# Altium integrated library CAP-CSGP_rev15b.intlib: 820 symbols (part 3 of 9)
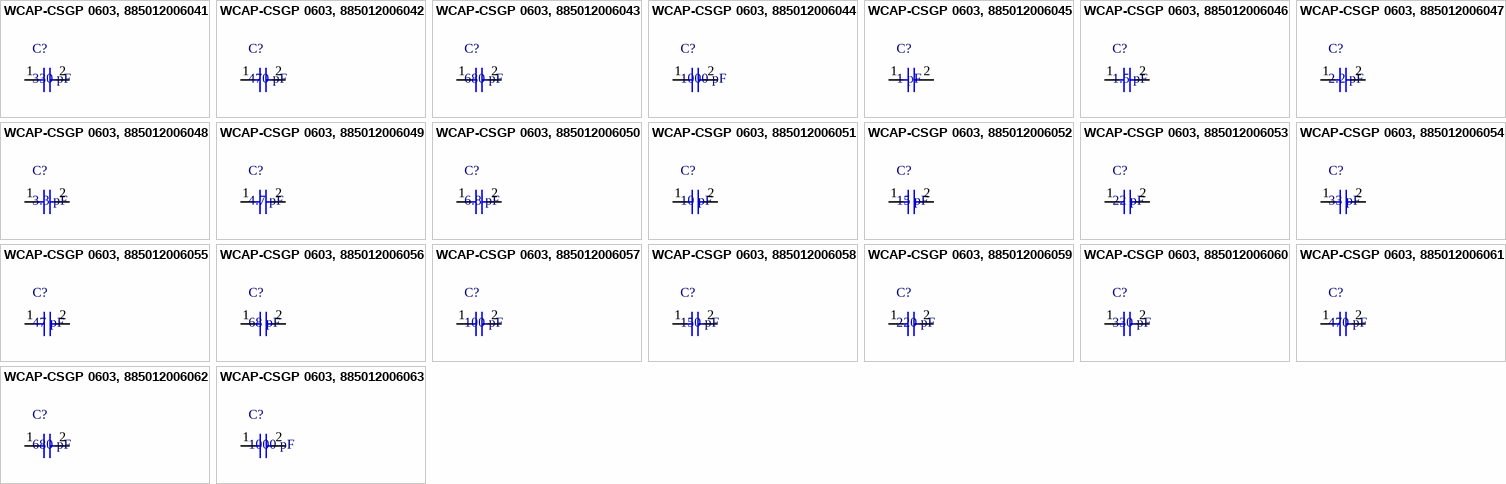
[diagram p30: symbols WCAP-CSGP 0603, 885012006041 to WCAP-CSGP 0603, 885012006063]

## WCAP-CSGP 0603, 885012006047
designator C?, comment 2.2 pF
WCAP-CSGP MLCC, NP0, 0603, 2.2 pF,50Vdc; Manufacturer: Wurth Elektronik; partNo: 885012006047; E-mail: libraries@we-online.com; ComponentLink1Description: Manufacturer; ComponentLink1URL: http://www.we-online.com; ComponentLink2Description: Datasheet; ComponentLink2URL: http://katalog.we-online.de/pbs/datasheet/885012006047.pdf; Created by: Karrer Zheng; Created Date: 3/9/2015; Capacitance: 2.2 pF
footprint WCAP-CSGP 0603, H=0.8mm
pins: 1, 2

## WCAP-CSGP 0603, 885012006048
designator C?, comment 3.3 pF
WCAP-CSGP MLCC, NP0, 0603, 3.3 pF,50Vdc; Manufacturer: Wurth Elektronik; partNo: 885012006048; E-mail: libraries@we-online.com; ComponentLink1Description: Manufacturer; ComponentLink1URL: http://www.we-online.com; ComponentLink2Description: Datasheet; ComponentLink2URL: http://katalog.we-online.de/pbs/datasheet/885012006048.pdf; Created by: Karrer Zheng; Created Date: 3/9/2015; Capacitance: 3.3 pF
footprint WCAP-CSGP 0603, H=0.8mm
pins: 1, 2

## WCAP-CSGP 0603, 885012006049
designator C?, comment 4.7 pF
WCAP-CSGP MLCC, NP0, 0603, 4.7 pF,50Vdc; Manufacturer: Wurth Elektronik; partNo: 885012006049; E-mail: libraries@we-online.com; ComponentLink1Description: Manufacturer; ComponentLink1URL: http://www.we-online.com; ComponentLink2Description: Datasheet; ComponentLink2URL: http://katalog.we-online.de/pbs/datasheet/885012006049.pdf; Created by: Karrer Zheng; Created Date: 3/9/2015; Capacitance: 4.7 pF
footprint WCAP-CSGP 0603, H=0.8mm
pins: 1, 2

## WCAP-CSGP 0603, 885012006050
designator C?, comment 6.8 pF
WCAP-CSGP MLCC, NP0, 0603, 6.8 pF,50Vdc; Manufacturer: Wurth Elektronik; partNo: 885012006050; E-mail: libraries@we-online.com; ComponentLink1Description: Manufacturer; ComponentLink1URL: http://www.we-online.com; ComponentLink2Description: Datasheet; ComponentLink2URL: http://katalog.we-online.de/pbs/datasheet/885012006050.pdf; Created by: Karrer Zheng; Created Date: 3/9/2015; Capacitance: 6.8 pF
footprint WCAP-CSGP 0603, H=0.8mm
pins: 1, 2

## WCAP-CSGP 0603, 885012006051
designator C?, comment 10 pF
WCAP-CSGP MLCC, NP0, 0603, 10 pF,50Vdc; Manufacturer: Wurth Elektronik; partNo: 885012006051; E-mail: libraries@we-online.com; ComponentLink1Description: Manufacturer; ComponentLink1URL: http://www.we-online.com; ComponentLink2Description: Datasheet; ComponentLink2URL: http://katalog.we-online.de/pbs/datasheet/885012006051.pdf; Created by: Karrer Zheng; Created Date: 3/9/2015; Capacitance: 10 pF
footprint WCAP-CSGP 0603, H=0.8mm
pins: 1, 2

## WCAP-CSGP 0603, 885012006052
designator C?, comment 15 pF
WCAP-CSGP MLCC, NP0, 0603, 15 pF,50Vdc; Manufacturer: Wurth Elektronik; partNo: 885012006052; E-mail: libraries@we-online.com; ComponentLink1Description: Manufacturer; ComponentLink1URL: http://www.we-online.com; ComponentLink2Description: Datasheet; ComponentLink2URL: http://katalog.we-online.de/pbs/datasheet/885012006052.pdf; Created by: Karrer Zheng; Created Date: 3/9/2015; Capacitance: 15 pF
footprint WCAP-CSGP 0603, H=0.8mm
pins: 1, 2

## WCAP-CSGP 0603, 885012006053
designator C?, comment 22 pF
WCAP-CSGP MLCC, NP0, 0603, 22 pF,50Vdc; Manufacturer: Wurth Elektronik; partNo: 885012006053; E-mail: libraries@we-online.com; ComponentLink1Description: Manufacturer; ComponentLink1URL: http://www.we-online.com; ComponentLink2Description: Datasheet; ComponentLink2URL: http://katalog.we-online.de/pbs/datasheet/885012006053.pdf; Created by: Karrer Zheng; Created Date: 3/9/2015; Capacitance: 22 pF
footprint WCAP-CSGP 0603, H=0.8mm
pins: 1, 2

## WCAP-CSGP 0603, 885012006054
designator C?, comment 33 pF
WCAP-CSGP MLCC, NP0, 0603, 33 pF,50Vdc; Manufacturer: Wurth Elektronik; partNo: 885012006054; E-mail: libraries@we-online.com; ComponentLink1Description: Manufacturer; ComponentLink1URL: http://www.we-online.com; ComponentLink2Description: Datasheet; ComponentLink2URL: http://katalog.we-online.de/pbs/datasheet/885012006054.pdf; Created by: Karrer Zheng; Created Date: 3/9/2015; Capacitance: 33 pF
footprint WCAP-CSGP 0603, H=0.8mm
pins: 1, 2

## WCAP-CSGP 0603, 885012006055
designator C?, comment 47 pF
WCAP-CSGP MLCC, NP0, 0603, 47 pF,50Vdc; Manufacturer: Wurth Elektronik; partNo: 885012006055; E-mail: libraries@we-online.com; ComponentLink1Description: Manufacturer; ComponentLink1URL: http://www.we-online.com; ComponentLink2Description: Datasheet; ComponentLink2URL: http://katalog.we-online.de/pbs/datasheet/885012006055.pdf; Created by: Karrer Zheng; Created Date: 3/9/2015; Capacitance: 47 pF
footprint WCAP-CSGP 0603, H=0.8mm
pins: 1, 2

## WCAP-CSGP 0603, 885012006056
designator C?, comment 68 pF
WCAP-CSGP MLCC, NP0, 0603, 68 pF,50Vdc; Manufacturer: Wurth Elektronik; partNo: 885012006056; E-mail: libraries@we-online.com; ComponentLink1Description: Manufacturer; ComponentLink1URL: http://www.we-online.com; ComponentLink2Description: Datasheet; ComponentLink2URL: http://katalog.we-online.de/pbs/datasheet/885012006056.pdf; Created by: Karrer Zheng; Created Date: 3/9/2015; Capacitance: 68 pF
footprint WCAP-CSGP 0603, H=0.8mm
pins: 1, 2

## WCAP-CSGP 0603, 885012006057
designator C?, comment 100 pF
WCAP-CSGP MLCC, NP0, 0603, 100 pF,50Vdc; Manufacturer: Wurth Elektronik; partNo: 885012006057; E-mail: libraries@we-online.com; ComponentLink1Description: Manufacturer; ComponentLink1URL: http://www.we-online.com; ComponentLink2Description: Datasheet; ComponentLink2URL: http://katalog.we-online.de/pbs/datasheet/885012006057.pdf; Created by: Karrer Zheng; Created Date: 3/9/2015; Capacitance: 100 pF
footprint WCAP-CSGP 0603, H=0.8mm
pins: 1, 2

## WCAP-CSGP 0603, 885012006058
designator C?, comment 150 pF
WCAP-CSGP MLCC, NP0, 0603, 150 pF,50Vdc; Manufacturer: Wurth Elektronik; partNo: 885012006058; E-mail: libraries@we-online.com; ComponentLink1Description: Manufacturer; ComponentLink1URL: http://www.we-online.com; ComponentLink2Description: Datasheet; ComponentLink2URL: http://katalog.we-online.de/pbs/datasheet/885012006058.pdf; Created by: Karrer Zheng; Created Date: 3/9/2015; Capacitance: 150 pF
footprint WCAP-CSGP 0603, H=0.8mm
pins: 1, 2

## WCAP-CSGP 0603, 885012006059
designator C?, comment 220 pF
WCAP-CSGP MLCC, NP0, 0603, 220 pF,50Vdc; Manufacturer: Wurth Elektronik; partNo: 885012006059; E-mail: libraries@we-online.com; ComponentLink1Description: Manufacturer; ComponentLink1URL: http://www.we-online.com; ComponentLink2Description: Datasheet; ComponentLink2URL: http://katalog.we-online.de/pbs/datasheet/885012006059.pdf; Created by: Karrer Zheng; Created Date: 3/9/2015; Capacitance: 220 pF
footprint WCAP-CSGP 0603, H=0.8mm
pins: 1, 2

## WCAP-CSGP 0603, 885012006060
designator C?, comment 330 pF
WCAP-CSGP MLCC, NP0, 0603, 330 pF,50Vdc; Manufacturer: Wurth Elektronik; partNo: 885012006060; E-mail: libraries@we-online.com; ComponentLink1Description: Manufacturer; ComponentLink1URL: http://www.we-online.com; ComponentLink2Description: Datasheet; ComponentLink2URL: http://katalog.we-online.de/pbs/datasheet/885012006060.pdf; Created by: Karrer Zheng; Created Date: 3/9/2015; Capacitance: 330 pF
footprint WCAP-CSGP 0603, H=0.8mm
pins: 1, 2

## WCAP-CSGP 0603, 885012006061
designator C?, comment 470 pF
WCAP-CSGP MLCC, NP0, 0603, 470 pF,50Vdc; Manufacturer: Wurth Elektronik; partNo: 885012006061; E-mail: libraries@we-online.com; ComponentLink1Description: Manufacturer; ComponentLink1URL: http://www.we-online.com; ComponentLink2Description: Datasheet; ComponentLink2URL: http://katalog.we-online.de/pbs/datasheet/885012006061.pdf; Created by: Karrer Zheng; Created Date: 3/9/2015; Capacitance: 470 pF
footprint WCAP-CSGP 0603, H=0.8mm
pins: 1, 2

## WCAP-CSGP 0603, 885012006062
designator C?, comment 680 pF
WCAP-CSGP MLCC, NP0, 0603, 680 pF,50Vdc; Manufacturer: Wurth Elektronik; partNo: 885012006062; E-mail: libraries@we-online.com; ComponentLink1Description: Manufacturer; ComponentLink1URL: http://www.we-online.com; ComponentLink2Description: Datasheet; ComponentLink2URL: http://katalog.we-online.de/pbs/datasheet/885012006062.pdf; Created by: Karrer Zheng; Created Date: 3/9/2015; Capacitance: 680 pF
footprint WCAP-CSGP 0603, H=0.8mm
pins: 1, 2

## WCAP-CSGP 0603, 885012006063
designator C?, comment 1000 pF
WCAP-CSGP MLCC, NP0, 0603, 1000 pF,50Vdc; Manufacturer: Wurth Elektronik; partNo: 885012006063; E-mail: libraries@we-online.com; ComponentLink1Description: Manufacturer; ComponentLink1URL: http://www.we-online.com; ComponentLink2Description: Datasheet; ComponentLink2URL: http://katalog.we-online.de/pbs/datasheet/885012006063.pdf; Created by: Karrer Zheng; Created Date: 3/9/2015; Capacitance: 1000 pF
footprint WCAP-CSGP 0603, H=0.8mm
pins: 1, 2


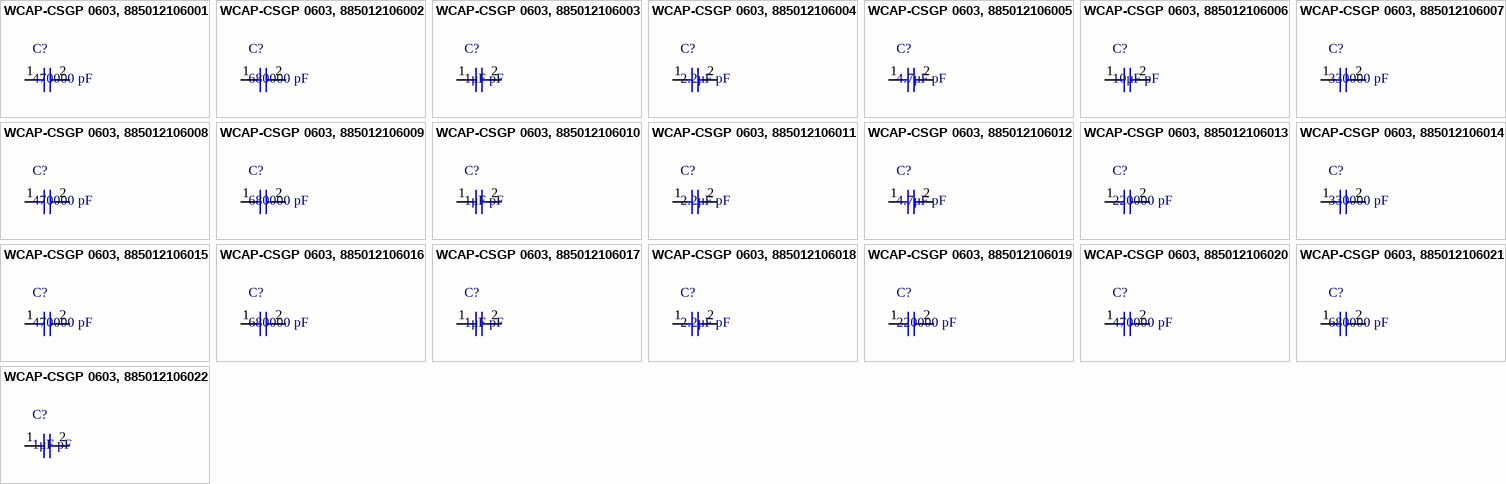
[diagram p7: symbols WCAP-CSGP 0603, 885012106001 to WCAP-CSGP 0603, 885012106022]

## WCAP-CSGP 0603, 885012106001
designator C?, comment 470000 pF
WCAP-CSGP MLCC, X5R, 0603, 470000 pF,6.3Vdc; Manufacturer: Wurth Elektronik; partNo: 885012106001; E-mail: libraries@we-online.com; ComponentLink1Description: Manufacturer; ComponentLink1URL: http://www.we-online.com; ComponentLink2Description: Datasheet; ComponentLink2URL: http://katalog.we-online.de/pbs/datasheet/885012106001.pdf; Created by: Karrer Zheng; Created Date: 3/9/2015; Capacitance: 470000 pF
footprint WCAP-CSGP 0603, H=0.8mm
pins: 1, 2

## WCAP-CSGP 0603, 885012106002
designator C?, comment 680000 pF
WCAP-CSGP MLCC, X5R, 0603, 680000 pF,6.3Vdc; Manufacturer: Wurth Elektronik; partNo: 885012106002; E-mail: libraries@we-online.com; ComponentLink1Description: Manufacturer; ComponentLink1URL: http://www.we-online.com; ComponentLink2Description: Datasheet; ComponentLink2URL: http://katalog.we-online.de/pbs/datasheet/885012106002.pdf; Created by: Karrer Zheng; Created Date: 3/9/2015; Capacitance: 680000 pF
footprint WCAP-CSGP 0603, H=0.8mm
pins: 1, 2

## WCAP-CSGP 0603, 885012106003
designator C?, comment 1μF pF
WCAP-CSGP MLCC, X5R, 0603, 1μF pF,6.3Vdc; Manufacturer: Wurth Elektronik; partNo: 885012106003; E-mail: libraries@we-online.com; ComponentLink1Description: Manufacturer; ComponentLink1URL: http://www.we-online.com; ComponentLink2Description: Datasheet; ComponentLink2URL: http://katalog.we-online.de/pbs/datasheet/885012106003.pdf; Created by: Karrer Zheng; Created Date: 3/9/2015; Capacitance: 1μF pF
footprint WCAP-CSGP 0603, H=0.8mm
pins: 1, 2

## WCAP-CSGP 0603, 885012106004
designator C?, comment 2.2μF pF
WCAP-CSGP MLCC, X5R, 0603, 2.2μF pF,6.3Vdc; Manufacturer: Wurth Elektronik; partNo: 885012106004; E-mail: libraries@we-online.com; ComponentLink1Description: Manufacturer; ComponentLink1URL: http://www.we-online.com; ComponentLink2Description: Datasheet; ComponentLink2URL: http://katalog.we-online.de/pbs/datasheet/885012106004.pdf; Created by: Karrer Zheng; Created Date: 3/9/2015; Capacitance: 2.2μF pF
footprint WCAP-CSGP 0603, H=0.8mm
pins: 1, 2

## WCAP-CSGP 0603, 885012106005
designator C?, comment 4.7μF pF
WCAP-CSGP MLCC, X5R, 0603, 4.7μF pF,6.3Vdc; Manufacturer: Wurth Elektronik; partNo: 885012106005; E-mail: libraries@we-online.com; ComponentLink1Description: Manufacturer; ComponentLink1URL: http://www.we-online.com; ComponentLink2Description: Datasheet; ComponentLink2URL: http://katalog.we-online.de/pbs/datasheet/885012106005.pdf; Created by: Karrer Zheng; Created Date: 3/9/2015; Capacitance: 4.7μF pF
footprint WCAP-CSGP 0603, H=0.8mm
pins: 1, 2

## WCAP-CSGP 0603, 885012106006
designator C?, comment 10μF pF
WCAP-CSGP MLCC, X5R, 0603, 10μF pF,6.3Vdc; Manufacturer: Wurth Elektronik; partNo: 885012106006; E-mail: libraries@we-online.com; ComponentLink1Description: Manufacturer; ComponentLink1URL: http://www.we-online.com; ComponentLink2Description: Datasheet; ComponentLink2URL: http://katalog.we-online.de/pbs/datasheet/885012106006.pdf; Created by: Karrer Zheng; Created Date: 3/9/2015; Capacitance: 10μF pF
footprint WCAP-CSGP 0603, H=0.8mm
pins: 1, 2

## WCAP-CSGP 0603, 885012106007
designator C?, comment 330000 pF
WCAP-CSGP MLCC, X5R, 0603, 330000 pF,10Vdc; Manufacturer: Wurth Elektronik; partNo: 885012106007; E-mail: libraries@we-online.com; ComponentLink1Description: Manufacturer; ComponentLink1URL: http://www.we-online.com; ComponentLink2Description: Datasheet; ComponentLink2URL: http://katalog.we-online.de/pbs/datasheet/885012106007.pdf; Created by: Karrer Zheng; Created Date: 3/9/2015; Capacitance: 330000 pF
footprint WCAP-CSGP 0603, H=0.8mm
pins: 1, 2

## WCAP-CSGP 0603, 885012106008
designator C?, comment 470000 pF
WCAP-CSGP MLCC, X5R, 0603, 470000 pF,10Vdc; Manufacturer: Wurth Elektronik; partNo: 885012106008; E-mail: libraries@we-online.com; ComponentLink1Description: Manufacturer; ComponentLink1URL: http://www.we-online.com; ComponentLink2Description: Datasheet; ComponentLink2URL: http://katalog.we-online.de/pbs/datasheet/885012106008.pdf; Created by: Karrer Zheng; Created Date: 3/9/2015; Capacitance: 470000 pF
footprint WCAP-CSGP 0603, H=0.8mm
pins: 1, 2

## WCAP-CSGP 0603, 885012106009
designator C?, comment 680000 pF
WCAP-CSGP MLCC, X5R, 0603, 680000 pF,10Vdc; Manufacturer: Wurth Elektronik; partNo: 885012106009; E-mail: libraries@we-online.com; ComponentLink1Description: Manufacturer; ComponentLink1URL: http://www.we-online.com; ComponentLink2Description: Datasheet; ComponentLink2URL: http://katalog.we-online.de/pbs/datasheet/885012106009.pdf; Created by: Karrer Zheng; Created Date: 3/9/2015; Capacitance: 680000 pF
footprint WCAP-CSGP 0603, H=0.8mm
pins: 1, 2

## WCAP-CSGP 0603, 885012106010
designator C?, comment 1μF pF
WCAP-CSGP MLCC, X5R, 0603, 1μF pF,10Vdc; Manufacturer: Wurth Elektronik; partNo: 885012106010; E-mail: libraries@we-online.com; ComponentLink1Description: Manufacturer; ComponentLink1URL: http://www.we-online.com; ComponentLink2Description: Datasheet; ComponentLink2URL: http://katalog.we-online.de/pbs/datasheet/885012106010.pdf; Created by: Karrer Zheng; Created Date: 3/9/2015; Capacitance: 1μF pF
footprint WCAP-CSGP 0603, H=0.8mm
pins: 1, 2

## WCAP-CSGP 0603, 885012106011
designator C?, comment 2.2μF pF
WCAP-CSGP MLCC, X5R, 0603, 2.2μF pF,10Vdc; Manufacturer: Wurth Elektronik; partNo: 885012106011; E-mail: libraries@we-online.com; ComponentLink1Description: Manufacturer; ComponentLink1URL: http://www.we-online.com; ComponentLink2Description: Datasheet; ComponentLink2URL: http://katalog.we-online.de/pbs/datasheet/885012106011.pdf; Created by: Karrer Zheng; Created Date: 3/9/2015; Capacitance: 2.2μF pF
footprint WCAP-CSGP 0603, H=0.8mm
pins: 1, 2

## WCAP-CSGP 0603, 885012106012
designator C?, comment 4.7μF pF
WCAP-CSGP MLCC, X5R, 0603, 4.7μF pF,10Vdc; Manufacturer: Wurth Elektronik; partNo: 885012106012; E-mail: libraries@we-online.com; ComponentLink1Description: Manufacturer; ComponentLink1URL: http://www.we-online.com; ComponentLink2Description: Datasheet; ComponentLink2URL: http://katalog.we-online.de/pbs/datasheet/885012106012.pdf; Created by: Karrer Zheng; Created Date: 3/9/2015; Capacitance: 4.7μF pF
footprint WCAP-CSGP 0603, H=0.8mm
pins: 1, 2

## WCAP-CSGP 0603, 885012106013
designator C?, comment 220000 pF
WCAP-CSGP MLCC, X5R, 0603, 220000 pF,16Vdc; Manufacturer: Wurth Elektronik; partNo: 885012106013; E-mail: libraries@we-online.com; ComponentLink1Description: Manufacturer; ComponentLink1URL: http://www.we-online.com; ComponentLink2Description: Datasheet; ComponentLink2URL: http://katalog.we-online.de/pbs/datasheet/885012106013.pdf; Created by: Karrer Zheng; Created Date: 3/9/2015; Capacitance: 220000 pF
footprint WCAP-CSGP 0603, H=0.8mm
pins: 1, 2

## WCAP-CSGP 0603, 885012106014
designator C?, comment 330000 pF
WCAP-CSGP MLCC, X5R, 0603, 330000 pF,16Vdc; Manufacturer: Wurth Elektronik; partNo: 885012106014; E-mail: libraries@we-online.com; ComponentLink1Description: Manufacturer; ComponentLink1URL: http://www.we-online.com; ComponentLink2Description: Datasheet; ComponentLink2URL: http://katalog.we-online.de/pbs/datasheet/885012106014.pdf; Created by: Karrer Zheng; Created Date: 3/9/2015; Capacitance: 330000 pF
footprint WCAP-CSGP 0603, H=0.8mm
pins: 1, 2

## WCAP-CSGP 0603, 885012106015
designator C?, comment 470000 pF
WCAP-CSGP MLCC, X5R, 0603, 470000 pF,16Vdc; Manufacturer: Wurth Elektronik; partNo: 885012106015; E-mail: libraries@we-online.com; ComponentLink1Description: Manufacturer; ComponentLink1URL: http://www.we-online.com; ComponentLink2Description: Datasheet; ComponentLink2URL: http://katalog.we-online.de/pbs/datasheet/885012106015.pdf; Created by: Karrer Zheng; Created Date: 3/9/2015; Capacitance: 470000 pF
footprint WCAP-CSGP 0603, H=0.8mm
pins: 1, 2

## WCAP-CSGP 0603, 885012106016
designator C?, comment 680000 pF
WCAP-CSGP MLCC, X5R, 0603, 680000 pF,16Vdc; Manufacturer: Wurth Elektronik; partNo: 885012106016; E-mail: libraries@we-online.com; ComponentLink1Description: Manufacturer; ComponentLink1URL: http://www.we-online.com; ComponentLink2Description: Datasheet; ComponentLink2URL: http://katalog.we-online.de/pbs/datasheet/885012106016.pdf; Created by: Karrer Zheng; Created Date: 3/9/2015; Capacitance: 680000 pF
footprint WCAP-CSGP 0603, H=0.8mm
pins: 1, 2

## WCAP-CSGP 0603, 885012106017
designator C?, comment 1μF pF
WCAP-CSGP MLCC, X5R, 0603, 1μF pF,16Vdc; Manufacturer: Wurth Elektronik; partNo: 885012106017; E-mail: libraries@we-online.com; ComponentLink1Description: Manufacturer; ComponentLink1URL: http://www.we-online.com; ComponentLink2Description: Datasheet; ComponentLink2URL: http://katalog.we-online.de/pbs/datasheet/885012106017.pdf; Created by: Karrer Zheng; Created Date: 3/9/2015; Capacitance: 1μF pF
footprint WCAP-CSGP 0603, H=0.8mm
pins: 1, 2

## WCAP-CSGP 0603, 885012106018
designator C?, comment 2.2μF pF
WCAP-CSGP MLCC, X5R, 0603, 2.2μF pF,16Vdc; Manufacturer: Wurth Elektronik; partNo: 885012106018; E-mail: libraries@we-online.com; ComponentLink1Description: Manufacturer; ComponentLink1URL: http://www.we-online.com; ComponentLink2Description: Datasheet; ComponentLink2URL: http://katalog.we-online.de/pbs/datasheet/885012106018.pdf; Created by: Karrer Zheng; Created Date: 3/9/2015; Capacitance: 2.2μF pF
footprint WCAP-CSGP 0603, H=0.8mm
pins: 1, 2

## WCAP-CSGP 0603, 885012106019
designator C?, comment 220000 pF
WCAP-CSGP MLCC, X5R, 0603, 220000 pF,25Vdc; Manufacturer: Wurth Elektronik; partNo: 885012106019; E-mail: libraries@we-online.com; ComponentLink1Description: Manufacturer; ComponentLink1URL: http://www.we-online.com; ComponentLink2Description: Datasheet; ComponentLink2URL: http://katalog.we-online.de/pbs/datasheet/885012106019.pdf; Created by: Karrer Zheng; Created Date: 3/9/2015; Capacitance: 220000 pF
footprint WCAP-CSGP 0603, H=0.8mm
pins: 1, 2

## WCAP-CSGP 0603, 885012106020
designator C?, comment 470000 pF
WCAP-CSGP MLCC, X5R, 0603, 470000 pF,25Vdc; Manufacturer: Wurth Elektronik; partNo: 885012106020; E-mail: libraries@we-online.com; ComponentLink1Description: Manufacturer; ComponentLink1URL: http://www.we-online.com; ComponentLink2Description: Datasheet; ComponentLink2URL: http://katalog.we-online.de/pbs/datasheet/885012106020.pdf; Created by: Karrer Zheng; Created Date: 3/9/2015; Capacitance: 470000 pF
footprint WCAP-CSGP 0603, H=0.8mm
pins: 1, 2

## WCAP-CSGP 0603, 885012106021
designator C?, comment 680000 pF
WCAP-CSGP MLCC, X5R, 0603, 680000 pF,25Vdc; Manufacturer: Wurth Elektronik; partNo: 885012106021; E-mail: libraries@we-online.com; ComponentLink1Description: Manufacturer; ComponentLink1URL: http://www.we-online.com; ComponentLink2Description: Datasheet; ComponentLink2URL: http://katalog.we-online.de/pbs/datasheet/885012106021.pdf; Created by: Karrer Zheng; Created Date: 3/9/2015; Capacitance: 680000 pF
footprint WCAP-CSGP 0603, H=0.8mm
pins: 1, 2

## WCAP-CSGP 0603, 885012106022
designator C?, comment 1μF pF
WCAP-CSGP MLCC, X5R, 0603, 1μF pF,25Vdc; Manufacturer: Wurth Elektronik; partNo: 885012106022; E-mail: libraries@we-online.com; ComponentLink1Description: Manufacturer; ComponentLink1URL: http://www.we-online.com; ComponentLink2Description: Datasheet; ComponentLink2URL: http://katalog.we-online.de/pbs/datasheet/885012106022.pdf; Created by: Karrer Zheng; Created Date: 3/9/2015; Capacitance: 1μF pF
footprint WCAP-CSGP 0603, H=0.8mm
pins: 1, 2


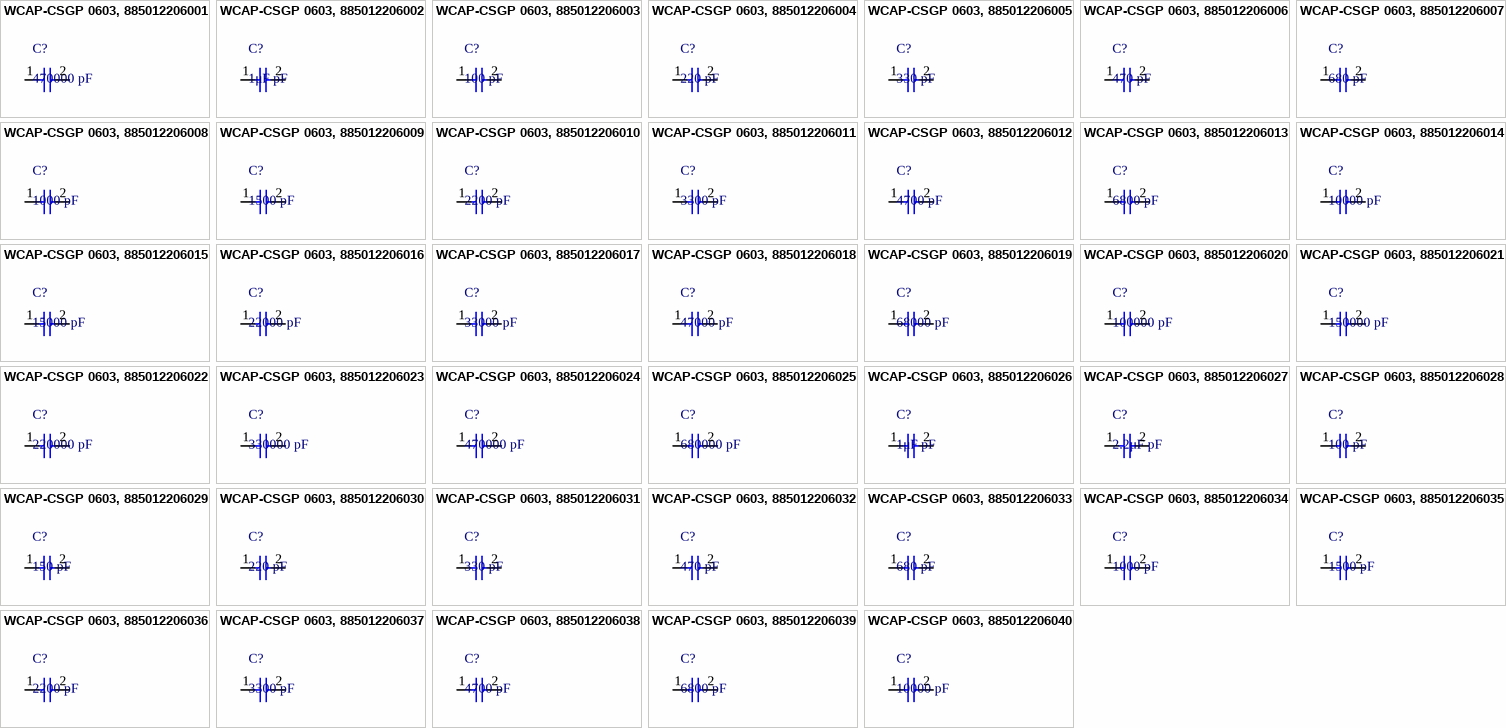
[diagram p8: symbols WCAP-CSGP 0603, 885012206001 to WCAP-CSGP 0603, 885012206040]

## WCAP-CSGP 0603, 885012206001
designator C?, comment 470000 pF
WCAP-CSGP MLCC, X7R, 0603, 470000 pF,6.3Vdc; Manufacturer: Wurth Elektronik; partNo: 885012206001; E-mail: libraries@we-online.com; ComponentLink1Description: Manufacturer; ComponentLink1URL: http://www.we-online.com; ComponentLink2Description: Datasheet; ComponentLink2URL: http://katalog.we-online.de/pbs/datasheet/885012206001.pdf; Created by: Karrer Zheng; Created Date: 3/9/2015; Capacitance: 470000 pF
footprint WCAP-CSGP 0603, H=0.8mm
pins: 1, 2

## WCAP-CSGP 0603, 885012206002
designator C?, comment 1μF pF
WCAP-CSGP MLCC, X7R, 0603, 1μF pF,6.3Vdc; Manufacturer: Wurth Elektronik; partNo: 885012206002; E-mail: libraries@we-online.com; ComponentLink1Description: Manufacturer; ComponentLink1URL: http://www.we-online.com; ComponentLink2Description: Datasheet; ComponentLink2URL: http://katalog.we-online.de/pbs/datasheet/885012206002.pdf; Created by: Karrer Zheng; Created Date: 3/9/2015; Capacitance: 1μF pF
footprint WCAP-CSGP 0603, H=0.8mm
pins: 1, 2

## WCAP-CSGP 0603, 885012206003
designator C?, comment 100 pF
WCAP-CSGP MLCC, X7R, 0603, 100 pF,10Vdc; Manufacturer: Wurth Elektronik; partNo: 885012206003; E-mail: libraries@we-online.com; ComponentLink1Description: Manufacturer; ComponentLink1URL: http://www.we-online.com; ComponentLink2Description: Datasheet; ComponentLink2URL: http://katalog.we-online.de/pbs/datasheet/885012206003.pdf; Created by: Karrer Zheng; Created Date: 3/9/2015; Capacitance: 100 pF
footprint WCAP-CSGP 0603, H=0.8mm
pins: 1, 2

## WCAP-CSGP 0603, 885012206004
designator C?, comment 220 pF
WCAP-CSGP MLCC, X7R, 0603, 220 pF,10Vdc; Manufacturer: Wurth Elektronik; partNo: 885012206004; E-mail: libraries@we-online.com; ComponentLink1Description: Manufacturer; ComponentLink1URL: http://www.we-online.com; ComponentLink2Description: Datasheet; ComponentLink2URL: http://katalog.we-online.de/pbs/datasheet/885012206004.pdf; Created by: Karrer Zheng; Created Date: 3/9/2015; Capacitance: 220 pF
footprint WCAP-CSGP 0603, H=0.8mm
pins: 1, 2

## WCAP-CSGP 0603, 885012206005
designator C?, comment 330 pF
WCAP-CSGP MLCC, X7R, 0603, 330 pF,10Vdc; Manufacturer: Wurth Elektronik; partNo: 885012206005; E-mail: libraries@we-online.com; ComponentLink1Description: Manufacturer; ComponentLink1URL: http://www.we-online.com; ComponentLink2Description: Datasheet; ComponentLink2URL: http://katalog.we-online.de/pbs/datasheet/885012206005.pdf; Created by: Karrer Zheng; Created Date: 3/9/2015; Capacitance: 330 pF
footprint WCAP-CSGP 0603, H=0.8mm
pins: 1, 2

## WCAP-CSGP 0603, 885012206006
designator C?, comment 470 pF
WCAP-CSGP MLCC, X7R, 0603, 470 pF,10Vdc; Manufacturer: Wurth Elektronik; partNo: 885012206006; E-mail: libraries@we-online.com; ComponentLink1Description: Manufacturer; ComponentLink1URL: http://www.we-online.com; ComponentLink2Description: Datasheet; ComponentLink2URL: http://katalog.we-online.de/pbs/datasheet/885012206006.pdf; Created by: Karrer Zheng; Created Date: 3/9/2015; Capacitance: 470 pF
footprint WCAP-CSGP 0603, H=0.8mm
pins: 1, 2

## WCAP-CSGP 0603, 885012206007
designator C?, comment 680 pF
WCAP-CSGP MLCC, X7R, 0603, 680 pF,10Vdc; Manufacturer: Wurth Elektronik; partNo: 885012206007; E-mail: libraries@we-online.com; ComponentLink1Description: Manufacturer; ComponentLink1URL: http://www.we-online.com; ComponentLink2Description: Datasheet; ComponentLink2URL: http://katalog.we-online.de/pbs/datasheet/885012206007.pdf; Created by: Karrer Zheng; Created Date: 3/9/2015; Capacitance: 680 pF
footprint WCAP-CSGP 0603, H=0.8mm
pins: 1, 2

## WCAP-CSGP 0603, 885012206008
designator C?, comment 1000 pF
WCAP-CSGP MLCC, X7R, 0603, 1000 pF,10Vdc; Manufacturer: Wurth Elektronik; partNo: 885012206008; E-mail: libraries@we-online.com; ComponentLink1Description: Manufacturer; ComponentLink1URL: http://www.we-online.com; ComponentLink2Description: Datasheet; ComponentLink2URL: http://katalog.we-online.de/pbs/datasheet/885012206008.pdf; Created by: Karrer Zheng; Created Date: 3/9/2015; Capacitance: 1000 pF
footprint WCAP-CSGP 0603, H=0.8mm
pins: 1, 2

## WCAP-CSGP 0603, 885012206009
designator C?, comment 1500 pF
WCAP-CSGP MLCC, X7R, 0603, 1500 pF,10Vdc; Manufacturer: Wurth Elektronik; partNo: 885012206009; E-mail: libraries@we-online.com; ComponentLink1Description: Manufacturer; ComponentLink1URL: http://www.we-online.com; ComponentLink2Description: Datasheet; ComponentLink2URL: http://katalog.we-online.de/pbs/datasheet/885012206009.pdf; Created by: Karrer Zheng; Created Date: 3/9/2015; Capacitance: 1500 pF
footprint WCAP-CSGP 0603, H=0.8mm
pins: 1, 2

## WCAP-CSGP 0603, 885012206010
designator C?, comment 2200 pF
WCAP-CSGP MLCC, X7R, 0603, 2200 pF,10Vdc; Manufacturer: Wurth Elektronik; partNo: 885012206010; E-mail: libraries@we-online.com; ComponentLink1Description: Manufacturer; ComponentLink1URL: http://www.we-online.com; ComponentLink2Description: Datasheet; ComponentLink2URL: http://katalog.we-online.de/pbs/datasheet/885012206010.pdf; Created by: Karrer Zheng; Created Date: 3/9/2015; Capacitance: 2200 pF
footprint WCAP-CSGP 0603, H=0.8mm
pins: 1, 2

## WCAP-CSGP 0603, 885012206011
designator C?, comment 3300 pF
WCAP-CSGP MLCC, X7R, 0603, 3300 pF,10Vdc; Manufacturer: Wurth Elektronik; partNo: 885012206011; E-mail: libraries@we-online.com; ComponentLink1Description: Manufacturer; ComponentLink1URL: http://www.we-online.com; ComponentLink2Description: Datasheet; ComponentLink2URL: http://katalog.we-online.de/pbs/datasheet/885012206011.pdf; Created by: Karrer Zheng; Created Date: 3/9/2015; Capacitance: 3300 pF
footprint WCAP-CSGP 0603, H=0.8mm
pins: 1, 2

## WCAP-CSGP 0603, 885012206012
designator C?, comment 4700 pF
WCAP-CSGP MLCC, X7R, 0603, 4700 pF,10Vdc; Manufacturer: Wurth Elektronik; partNo: 885012206012; E-mail: libraries@we-online.com; ComponentLink1Description: Manufacturer; ComponentLink1URL: http://www.we-online.com; ComponentLink2Description: Datasheet; ComponentLink2URL: http://katalog.we-online.de/pbs/datasheet/885012206012.pdf; Created by: Karrer Zheng; Created Date: 3/9/2015; Capacitance: 4700 pF
footprint WCAP-CSGP 0603, H=0.8mm
pins: 1, 2

## WCAP-CSGP 0603, 885012206013
designator C?, comment 6800 pF
WCAP-CSGP MLCC, X7R, 0603, 6800 pF,10Vdc; Manufacturer: Wurth Elektronik; partNo: 885012206013; E-mail: libraries@we-online.com; ComponentLink1Description: Manufacturer; ComponentLink1URL: http://www.we-online.com; ComponentLink2Description: Datasheet; ComponentLink2URL: http://katalog.we-online.de/pbs/datasheet/885012206013.pdf; Created by: Karrer Zheng; Created Date: 3/9/2015; Capacitance: 6800 pF
footprint WCAP-CSGP 0603, H=0.8mm
pins: 1, 2

## WCAP-CSGP 0603, 885012206014
designator C?, comment 10000 pF
WCAP-CSGP MLCC, X7R, 0603, 10000 pF,10Vdc; Manufacturer: Wurth Elektronik; partNo: 885012206014; E-mail: libraries@we-online.com; ComponentLink1Description: Manufacturer; ComponentLink1URL: http://www.we-online.com; ComponentLink2Description: Datasheet; ComponentLink2URL: http://katalog.we-online.de/pbs/datasheet/885012206014.pdf; Created by: Karrer Zheng; Created Date: 3/9/2015; Capacitance: 10000 pF
footprint WCAP-CSGP 0603, H=0.8mm
pins: 1, 2

## WCAP-CSGP 0603, 885012206015
designator C?, comment 15000 pF
WCAP-CSGP MLCC, X7R, 0603, 15000 pF,10Vdc; Manufacturer: Wurth Elektronik; partNo: 885012206015; E-mail: libraries@we-online.com; ComponentLink1Description: Manufacturer; ComponentLink1URL: http://www.we-online.com; ComponentLink2Description: Datasheet; ComponentLink2URL: http://katalog.we-online.de/pbs/datasheet/885012206015.pdf; Created by: Karrer Zheng; Created Date: 3/9/2015; Capacitance: 15000 pF
footprint WCAP-CSGP 0603, H=0.8mm
pins: 1, 2

## WCAP-CSGP 0603, 885012206016
designator C?, comment 22000 pF
WCAP-CSGP MLCC, X7R, 0603, 22000 pF,10Vdc; Manufacturer: Wurth Elektronik; partNo: 885012206016; E-mail: libraries@we-online.com; ComponentLink1Description: Manufacturer; ComponentLink1URL: http://www.we-online.com; ComponentLink2Description: Datasheet; ComponentLink2URL: http://katalog.we-online.de/pbs/datasheet/885012206016.pdf; Created by: Karrer Zheng; Created Date: 3/9/2015; Capacitance: 22000 pF
footprint WCAP-CSGP 0603, H=0.8mm
pins: 1, 2

## WCAP-CSGP 0603, 885012206017
designator C?, comment 33000 pF
WCAP-CSGP MLCC, X7R, 0603, 33000 pF,10Vdc; Manufacturer: Wurth Elektronik; partNo: 885012206017; E-mail: libraries@we-online.com; ComponentLink1Description: Manufacturer; ComponentLink1URL: http://www.we-online.com; ComponentLink2Description: Datasheet; ComponentLink2URL: http://katalog.we-online.de/pbs/datasheet/885012206017.pdf; Created by: Karrer Zheng; Created Date: 3/9/2015; Capacitance: 33000 pF
footprint WCAP-CSGP 0603, H=0.8mm
pins: 1, 2

## WCAP-CSGP 0603, 885012206018
designator C?, comment 47000 pF
WCAP-CSGP MLCC, X7R, 0603, 47000 pF,10Vdc; Manufacturer: Wurth Elektronik; partNo: 885012206018; E-mail: libraries@we-online.com; ComponentLink1Description: Manufacturer; ComponentLink1URL: http://www.we-online.com; ComponentLink2Description: Datasheet; ComponentLink2URL: http://katalog.we-online.de/pbs/datasheet/885012206018.pdf; Created by: Karrer Zheng; Created Date: 3/9/2015; Capacitance: 47000 pF
footprint WCAP-CSGP 0603, H=0.8mm
pins: 1, 2

## WCAP-CSGP 0603, 885012206019
designator C?, comment 68000 pF
WCAP-CSGP MLCC, X7R, 0603, 68000 pF,10Vdc; Manufacturer: Wurth Elektronik; partNo: 885012206019; E-mail: libraries@we-online.com; ComponentLink1Description: Manufacturer; ComponentLink1URL: http://www.we-online.com; ComponentLink2Description: Datasheet; ComponentLink2URL: http://katalog.we-online.de/pbs/datasheet/885012206019.pdf; Created by: Karrer Zheng; Created Date: 3/9/2015; Capacitance: 68000 pF
footprint WCAP-CSGP 0603, H=0.8mm
pins: 1, 2

## WCAP-CSGP 0603, 885012206020
designator C?, comment 100000 pF
WCAP-CSGP MLCC, X7R, 0603, 100000 pF,10Vdc; Manufacturer: Wurth Elektronik; partNo: 885012206020; E-mail: libraries@we-online.com; ComponentLink1Description: Manufacturer; ComponentLink1URL: http://www.we-online.com; ComponentLink2Description: Datasheet; ComponentLink2URL: http://katalog.we-online.de/pbs/datasheet/885012206020.pdf; Created by: Karrer Zheng; Created Date: 3/9/2015; Capacitance: 100000 pF
footprint WCAP-CSGP 0603, H=0.8mm
pins: 1, 2

## WCAP-CSGP 0603, 885012206021
designator C?, comment 150000 pF
WCAP-CSGP MLCC, X7R, 0603, 150000 pF,10Vdc; Manufacturer: Wurth Elektronik; partNo: 885012206021; E-mail: libraries@we-online.com; ComponentLink1Description: Manufacturer; ComponentLink1URL: http://www.we-online.com; ComponentLink2Description: Datasheet; ComponentLink2URL: http://katalog.we-online.de/pbs/datasheet/885012206021.pdf; Created by: Karrer Zheng; Created Date: 3/9/2015; Capacitance: 150000 pF
footprint WCAP-CSGP 0603, H=0.8mm
pins: 1, 2

## WCAP-CSGP 0603, 885012206022
designator C?, comment 220000 pF
WCAP-CSGP MLCC, X7R, 0603, 220000 pF,10Vdc; Manufacturer: Wurth Elektronik; partNo: 885012206022; E-mail: libraries@we-online.com; ComponentLink1Description: Manufacturer; ComponentLink1URL: http://www.we-online.com; ComponentLink2Description: Datasheet; ComponentLink2URL: http://katalog.we-online.de/pbs/datasheet/885012206022.pdf; Created by: Karrer Zheng; Created Date: 3/9/2015; Capacitance: 220000 pF
footprint WCAP-CSGP 0603, H=0.8mm
pins: 1, 2

## WCAP-CSGP 0603, 885012206023
designator C?, comment 330000 pF
WCAP-CSGP MLCC, X7R, 0603, 330000 pF,10Vdc; Manufacturer: Wurth Elektronik; partNo: 885012206023; E-mail: libraries@we-online.com; ComponentLink1Description: Manufacturer; ComponentLink1URL: http://www.we-online.com; ComponentLink2Description: Datasheet; ComponentLink2URL: http://katalog.we-online.de/pbs/datasheet/885012206023.pdf; Created by: Karrer Zheng; Created Date: 3/9/2015; Capacitance: 330000 pF
footprint WCAP-CSGP 0603, H=0.8mm
pins: 1, 2

## WCAP-CSGP 0603, 885012206024
designator C?, comment 470000 pF
WCAP-CSGP MLCC, X7R, 0603, 470000 pF,10Vdc; Manufacturer: Wurth Elektronik; partNo: 885012206024; E-mail: libraries@we-online.com; ComponentLink1Description: Manufacturer; ComponentLink1URL: http://www.we-online.com; ComponentLink2Description: Datasheet; ComponentLink2URL: http://katalog.we-online.de/pbs/datasheet/885012206024.pdf; Created by: Karrer Zheng; Created Date: 3/9/2015; Capacitance: 470000 pF
footprint WCAP-CSGP 0603, H=0.8mm
pins: 1, 2

## WCAP-CSGP 0603, 885012206025
designator C?, comment 680000 pF
WCAP-CSGP MLCC, X7R, 0603, 680000 pF,10Vdc; Manufacturer: Wurth Elektronik; partNo: 885012206025; E-mail: libraries@we-online.com; ComponentLink1Description: Manufacturer; ComponentLink1URL: http://www.we-online.com; ComponentLink2Description: Datasheet; ComponentLink2URL: http://katalog.we-online.de/pbs/datasheet/885012206025.pdf; Created by: Karrer Zheng; Created Date: 3/9/2015; Capacitance: 680000 pF
footprint WCAP-CSGP 0603, H=0.8mm
pins: 1, 2

## WCAP-CSGP 0603, 885012206026
designator C?, comment 1μF pF
WCAP-CSGP MLCC, X7R, 0603, 1μF pF,10Vdc; Manufacturer: Wurth Elektronik; partNo: 885012206026; E-mail: libraries@we-online.com; ComponentLink1Description: Manufacturer; ComponentLink1URL: http://www.we-online.com; ComponentLink2Description: Datasheet; ComponentLink2URL: http://katalog.we-online.de/pbs/datasheet/885012206026.pdf; Created by: Karrer Zheng; Created Date: 3/9/2015; Capacitance: 1μF pF
footprint WCAP-CSGP 0603, H=0.8mm
pins: 1, 2

## WCAP-CSGP 0603, 885012206027
designator C?, comment 2.2μF pF
WCAP-CSGP MLCC, X7R, 0603, 2.2μF pF,10Vdc; Manufacturer: Wurth Elektronik; partNo: 885012206027; E-mail: libraries@we-online.com; ComponentLink1Description: Manufacturer; ComponentLink1URL: http://www.we-online.com; ComponentLink2Description: Datasheet; ComponentLink2URL: http://katalog.we-online.de/pbs/datasheet/885012206027.pdf; Created by: Karrer Zheng; Created Date: 3/9/2015; Capacitance: 2.2μF pF
footprint WCAP-CSGP 0603, H=0.8mm
pins: 1, 2

## WCAP-CSGP 0603, 885012206028
designator C?, comment 100 pF
WCAP-CSGP MLCC, X7R, 0603, 100 pF,16Vdc; Manufacturer: Wurth Elektronik; partNo: 885012206028; E-mail: libraries@we-online.com; ComponentLink1Description: Manufacturer; ComponentLink1URL: http://www.we-online.com; ComponentLink2Description: Datasheet; ComponentLink2URL: http://katalog.we-online.de/pbs/datasheet/885012206028.pdf; Created by: Karrer Zheng; Created Date: 3/9/2015; Capacitance: 100 pF
footprint WCAP-CSGP 0603, H=0.8mm
pins: 1, 2

## WCAP-CSGP 0603, 885012206029
designator C?, comment 150 pF
WCAP-CSGP MLCC, X7R, 0603, 150 pF,16Vdc; Manufacturer: Wurth Elektronik; partNo: 885012206029; E-mail: libraries@we-online.com; ComponentLink1Description: Manufacturer; ComponentLink1URL: http://www.we-online.com; ComponentLink2Description: Datasheet; ComponentLink2URL: http://katalog.we-online.de/pbs/datasheet/885012206029.pdf; Created by: Karrer Zheng; Created Date: 3/9/2015; Capacitance: 150 pF
footprint WCAP-CSGP 0603, H=0.8mm
pins: 1, 2

## WCAP-CSGP 0603, 885012206030
designator C?, comment 220 pF
WCAP-CSGP MLCC, X7R, 0603, 220 pF,16Vdc; Manufacturer: Wurth Elektronik; partNo: 885012206030; E-mail: libraries@we-online.com; ComponentLink1Description: Manufacturer; ComponentLink1URL: http://www.we-online.com; ComponentLink2Description: Datasheet; ComponentLink2URL: http://katalog.we-online.de/pbs/datasheet/885012206030.pdf; Created by: Karrer Zheng; Created Date: 3/9/2015; Capacitance: 220 pF
footprint WCAP-CSGP 0603, H=0.8mm
pins: 1, 2

## WCAP-CSGP 0603, 885012206031
designator C?, comment 330 pF
WCAP-CSGP MLCC, X7R, 0603, 330 pF,16Vdc; Manufacturer: Wurth Elektronik; partNo: 885012206031; E-mail: libraries@we-online.com; ComponentLink1Description: Manufacturer; ComponentLink1URL: http://www.we-online.com; ComponentLink2Description: Datasheet; ComponentLink2URL: http://katalog.we-online.de/pbs/datasheet/885012206031.pdf; Created by: Karrer Zheng; Created Date: 3/9/2015; Capacitance: 330 pF
footprint WCAP-CSGP 0603, H=0.8mm
pins: 1, 2

## WCAP-CSGP 0603, 885012206032
designator C?, comment 470 pF
WCAP-CSGP MLCC, X7R, 0603, 470 pF,16Vdc; Manufacturer: Wurth Elektronik; partNo: 885012206032; E-mail: libraries@we-online.com; ComponentLink1Description: Manufacturer; ComponentLink1URL: http://www.we-online.com; ComponentLink2Description: Datasheet; ComponentLink2URL: http://katalog.we-online.de/pbs/datasheet/885012206032.pdf; Created by: Karrer Zheng; Created Date: 3/9/2015; Capacitance: 470 pF
footprint WCAP-CSGP 0603, H=0.8mm
pins: 1, 2

## WCAP-CSGP 0603, 885012206033
designator C?, comment 680 pF
WCAP-CSGP MLCC, X7R, 0603, 680 pF,16Vdc; Manufacturer: Wurth Elektronik; partNo: 885012206033; E-mail: libraries@we-online.com; ComponentLink1Description: Manufacturer; ComponentLink1URL: http://www.we-online.com; ComponentLink2Description: Datasheet; ComponentLink2URL: http://katalog.we-online.de/pbs/datasheet/885012206033.pdf; Created by: Karrer Zheng; Created Date: 3/9/2015; Capacitance: 680 pF
footprint WCAP-CSGP 0603, H=0.8mm
pins: 1, 2

## WCAP-CSGP 0603, 885012206034
designator C?, comment 1000 pF
WCAP-CSGP MLCC, X7R, 0603, 1000 pF,16Vdc; Manufacturer: Wurth Elektronik; partNo: 885012206034; E-mail: libraries@we-online.com; ComponentLink1Description: Manufacturer; ComponentLink1URL: http://www.we-online.com; ComponentLink2Description: Datasheet; ComponentLink2URL: http://katalog.we-online.de/pbs/datasheet/885012206034.pdf; Created by: Karrer Zheng; Created Date: 3/9/2015; Capacitance: 1000 pF
footprint WCAP-CSGP 0603, H=0.8mm
pins: 1, 2

## WCAP-CSGP 0603, 885012206035
designator C?, comment 1500 pF
WCAP-CSGP MLCC, X7R, 0603, 1500 pF,16Vdc; Manufacturer: Wurth Elektronik; partNo: 885012206035; E-mail: libraries@we-online.com; ComponentLink1Description: Manufacturer; ComponentLink1URL: http://www.we-online.com; ComponentLink2Description: Datasheet; ComponentLink2URL: http://katalog.we-online.de/pbs/datasheet/885012206035.pdf; Created by: Karrer Zheng; Created Date: 3/9/2015; Capacitance: 1500 pF
footprint WCAP-CSGP 0603, H=0.8mm
pins: 1, 2

## WCAP-CSGP 0603, 885012206036
designator C?, comment 2200 pF
WCAP-CSGP MLCC, X7R, 0603, 2200 pF,16Vdc; Manufacturer: Wurth Elektronik; partNo: 885012206036; E-mail: libraries@we-online.com; ComponentLink1Description: Manufacturer; ComponentLink1URL: http://www.we-online.com; ComponentLink2Description: Datasheet; ComponentLink2URL: http://katalog.we-online.de/pbs/datasheet/885012206036.pdf; Created by: Karrer Zheng; Created Date: 3/9/2015; Capacitance: 2200 pF
footprint WCAP-CSGP 0603, H=0.8mm
pins: 1, 2

## WCAP-CSGP 0603, 885012206037
designator C?, comment 3300 pF
WCAP-CSGP MLCC, X7R, 0603, 3300 pF,16Vdc; Manufacturer: Wurth Elektronik; partNo: 885012206037; E-mail: libraries@we-online.com; ComponentLink1Description: Manufacturer; ComponentLink1URL: http://www.we-online.com; ComponentLink2Description: Datasheet; ComponentLink2URL: http://katalog.we-online.de/pbs/datasheet/885012206037.pdf; Created by: Karrer Zheng; Created Date: 3/9/2015; Capacitance: 3300 pF
footprint WCAP-CSGP 0603, H=0.8mm
pins: 1, 2

## WCAP-CSGP 0603, 885012206038
designator C?, comment 4700 pF
WCAP-CSGP MLCC, X7R, 0603, 4700 pF,16Vdc; Manufacturer: Wurth Elektronik; partNo: 885012206038; E-mail: libraries@we-online.com; ComponentLink1Description: Manufacturer; ComponentLink1URL: http://www.we-online.com; ComponentLink2Description: Datasheet; ComponentLink2URL: http://katalog.we-online.de/pbs/datasheet/885012206038.pdf; Created by: Karrer Zheng; Created Date: 3/9/2015; Capacitance: 4700 pF
footprint WCAP-CSGP 0603, H=0.8mm
pins: 1, 2

## WCAP-CSGP 0603, 885012206039
designator C?, comment 6800 pF
WCAP-CSGP MLCC, X7R, 0603, 6800 pF,16Vdc; Manufacturer: Wurth Elektronik; partNo: 885012206039; E-mail: libraries@we-online.com; ComponentLink1Description: Manufacturer; ComponentLink1URL: http://www.we-online.com; ComponentLink2Description: Datasheet; ComponentLink2URL: http://katalog.we-online.de/pbs/datasheet/885012206039.pdf; Created by: Karrer Zheng; Created Date: 3/9/2015; Capacitance: 6800 pF
footprint WCAP-CSGP 0603, H=0.8mm
pins: 1, 2

## WCAP-CSGP 0603, 885012206040
designator C?, comment 10000 pF
WCAP-CSGP MLCC, X7R, 0603, 10000 pF,16Vdc; Manufacturer: Wurth Elektronik; partNo: 885012206040; E-mail: libraries@we-online.com; ComponentLink1Description: Manufacturer; ComponentLink1URL: http://www.we-online.com; ComponentLink2Description: Datasheet; ComponentLink2URL: http://katalog.we-online.de/pbs/datasheet/885012206040.pdf; Created by: Karrer Zheng; Created Date: 3/9/2015; Capacitance: 10000 pF
footprint WCAP-CSGP 0603, H=0.8mm
pins: 1, 2

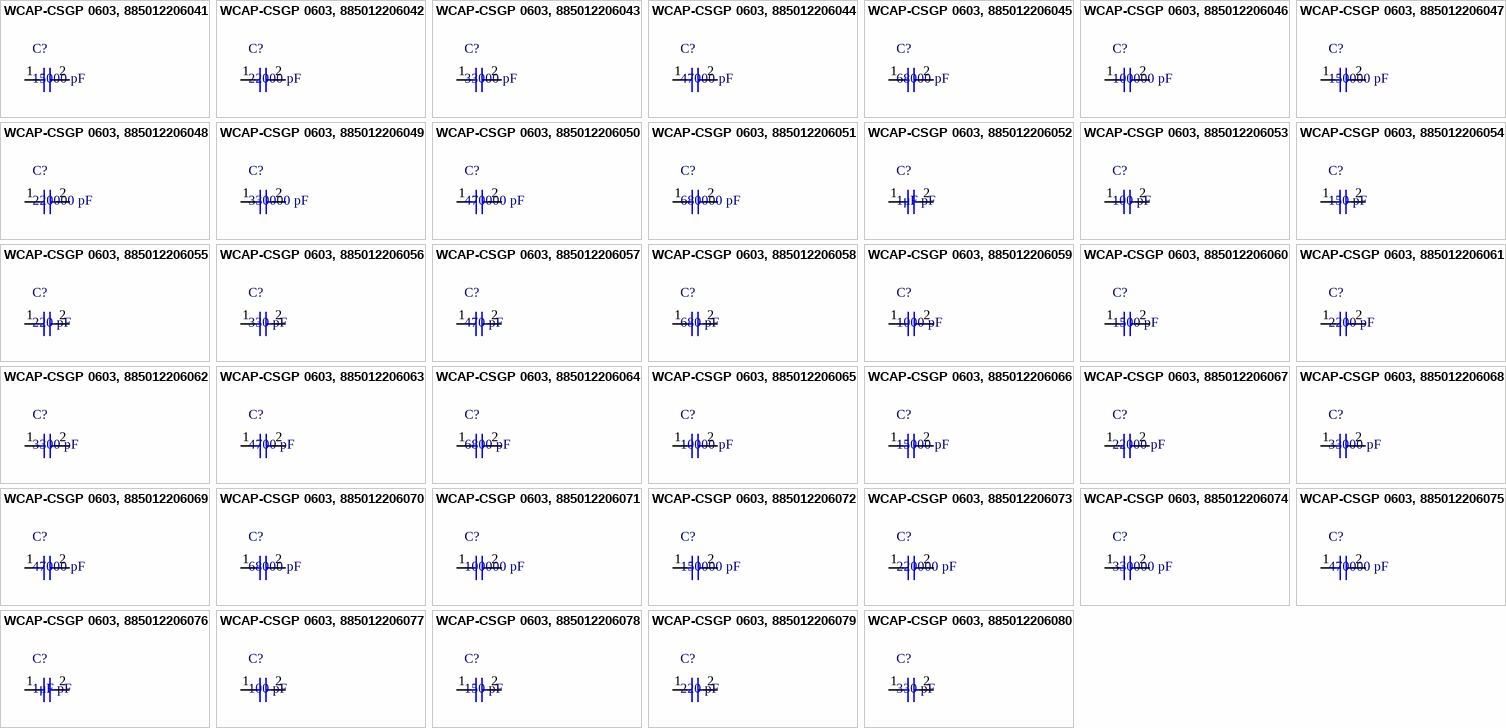
[diagram p9: symbols WCAP-CSGP 0603, 885012206041 to WCAP-CSGP 0603, 885012206080]

## WCAP-CSGP 0603, 885012206041
designator C?, comment 15000 pF
WCAP-CSGP MLCC, X7R, 0603, 15000 pF,16Vdc; Manufacturer: Wurth Elektronik; partNo: 885012206041; E-mail: libraries@we-online.com; ComponentLink1Description: Manufacturer; ComponentLink1URL: http://www.we-online.com; ComponentLink2Description: Datasheet; ComponentLink2URL: http://katalog.we-online.de/pbs/datasheet/885012206041.pdf; Created by: Karrer Zheng; Created Date: 3/9/2015; Capacitance: 15000 pF
footprint WCAP-CSGP 0603, H=0.8mm
pins: 1, 2

## WCAP-CSGP 0603, 885012206042
designator C?, comment 22000 pF
WCAP-CSGP MLCC, X7R, 0603, 22000 pF,16Vdc; Manufacturer: Wurth Elektronik; partNo: 885012206042; E-mail: libraries@we-online.com; ComponentLink1Description: Manufacturer; ComponentLink1URL: http://www.we-online.com; ComponentLink2Description: Datasheet; ComponentLink2URL: http://katalog.we-online.de/pbs/datasheet/885012206042.pdf; Created by: Karrer Zheng; Created Date: 3/9/2015; Capacitance: 22000 pF
footprint WCAP-CSGP 0603, H=0.8mm
pins: 1, 2

## WCAP-CSGP 0603, 885012206043
designator C?, comment 33000 pF
WCAP-CSGP MLCC, X7R, 0603, 33000 pF,16Vdc; Manufacturer: Wurth Elektronik; partNo: 885012206043; E-mail: libraries@we-online.com; ComponentLink1Description: Manufacturer; ComponentLink1URL: http://www.we-online.com; ComponentLink2Description: Datasheet; ComponentLink2URL: http://katalog.we-online.de/pbs/datasheet/885012206043.pdf; Created by: Karrer Zheng; Created Date: 3/9/2015; Capacitance: 33000 pF
footprint WCAP-CSGP 0603, H=0.8mm
pins: 1, 2

## WCAP-CSGP 0603, 885012206044
designator C?, comment 47000 pF
WCAP-CSGP MLCC, X7R, 0603, 47000 pF,16Vdc; Manufacturer: Wurth Elektronik; partNo: 885012206044; E-mail: libraries@we-online.com; ComponentLink1Description: Manufacturer; ComponentLink1URL: http://www.we-online.com; ComponentLink2Description: Datasheet; ComponentLink2URL: http://katalog.we-online.de/pbs/datasheet/885012206044.pdf; Created by: Karrer Zheng; Created Date: 3/9/2015; Capacitance: 47000 pF
footprint WCAP-CSGP 0603, H=0.8mm
pins: 1, 2

## WCAP-CSGP 0603, 885012206045
designator C?, comment 68000 pF
WCAP-CSGP MLCC, X7R, 0603, 68000 pF,16Vdc; Manufacturer: Wurth Elektronik; partNo: 885012206045; E-mail: libraries@we-online.com; ComponentLink1Description: Manufacturer; ComponentLink1URL: http://www.we-online.com; ComponentLink2Description: Datasheet; ComponentLink2URL: http://katalog.we-online.de/pbs/datasheet/885012206045.pdf; Created by: Karrer Zheng; Created Date: 3/9/2015; Capacitance: 68000 pF
footprint WCAP-CSGP 0603, H=0.8mm
pins: 1, 2

## WCAP-CSGP 0603, 885012206046
designator C?, comment 100000 pF
WCAP-CSGP MLCC, X7R, 0603, 100000 pF,16Vdc; Manufacturer: Wurth Elektronik; partNo: 885012206046; E-mail: libraries@we-online.com; ComponentLink1Description: Manufacturer; ComponentLink1URL: http://www.we-online.com; ComponentLink2Description: Datasheet; ComponentLink2URL: http://katalog.we-online.de/pbs/datasheet/885012206046.pdf; Created by: Karrer Zheng; Created Date: 3/9/2015; Capacitance: 100000 pF
footprint WCAP-CSGP 0603, H=0.8mm
pins: 1, 2

## WCAP-CSGP 0603, 885012206047
designator C?, comment 150000 pF
WCAP-CSGP MLCC, X7R, 0603, 150000 pF,16Vdc; Manufacturer: Wurth Elektronik; partNo: 885012206047; E-mail: libraries@we-online.com; ComponentLink1Description: Manufacturer; ComponentLink1URL: http://www.we-online.com; ComponentLink2Description: Datasheet; ComponentLink2URL: http://katalog.we-online.de/pbs/datasheet/885012206047.pdf; Created by: Karrer Zheng; Created Date: 3/9/2015; Capacitance: 150000 pF
footprint WCAP-CSGP 0603, H=0.8mm
pins: 1, 2

## WCAP-CSGP 0603, 885012206048
designator C?, comment 220000 pF
WCAP-CSGP MLCC, X7R, 0603, 220000 pF,16Vdc; Manufacturer: Wurth Elektronik; partNo: 885012206048; E-mail: libraries@we-online.com; ComponentLink1Description: Manufacturer; ComponentLink1URL: http://www.we-online.com; ComponentLink2Description: Datasheet; ComponentLink2URL: http://katalog.we-online.de/pbs/datasheet/885012206048.pdf; Created by: Karrer Zheng; Created Date: 3/9/2015; Capacitance: 220000 pF
footprint WCAP-CSGP 0603, H=0.8mm
pins: 1, 2

## WCAP-CSGP 0603, 885012206049
designator C?, comment 330000 pF
WCAP-CSGP MLCC, X7R, 0603, 330000 pF,16Vdc; Manufacturer: Wurth Elektronik; partNo: 885012206049; E-mail: libraries@we-online.com; ComponentLink1Description: Manufacturer; ComponentLink1URL: http://www.we-online.com; ComponentLink2Description: Datasheet; ComponentLink2URL: http://katalog.we-online.de/pbs/datasheet/885012206049.pdf; Created by: Karrer Zheng; Created Date: 3/9/2015; Capacitance: 330000 pF
footprint WCAP-CSGP 0603, H=0.8mm
pins: 1, 2

## WCAP-CSGP 0603, 885012206050
designator C?, comment 470000 pF
WCAP-CSGP MLCC, X7R, 0603, 470000 pF,16Vdc; Manufacturer: Wurth Elektronik; partNo: 885012206050; E-mail: libraries@we-online.com; ComponentLink1Description: Manufacturer; ComponentLink1URL: http://www.we-online.com; ComponentLink2Description: Datasheet; ComponentLink2URL: http://katalog.we-online.de/pbs/datasheet/885012206050.pdf; Created by: Karrer Zheng; Created Date: 3/9/2015; Capacitance: 470000 pF
footprint WCAP-CSGP 0603, H=0.8mm
pins: 1, 2

## WCAP-CSGP 0603, 885012206051
designator C?, comment 680000 pF
WCAP-CSGP MLCC, X7R, 0603, 680000 pF,16Vdc; Manufacturer: Wurth Elektronik; partNo: 885012206051; E-mail: libraries@we-online.com; ComponentLink1Description: Manufacturer; ComponentLink1URL: http://www.we-online.com; ComponentLink2Description: Datasheet; ComponentLink2URL: http://katalog.we-online.de/pbs/datasheet/885012206051.pdf; Created by: Karrer Zheng; Created Date: 3/9/2015; Capacitance: 680000 pF
footprint WCAP-CSGP 0603, H=0.8mm
pins: 1, 2

## WCAP-CSGP 0603, 885012206052
designator C?, comment 1μF pF
WCAP-CSGP MLCC, X7R, 0603, 1μF pF,16Vdc; Manufacturer: Wurth Elektronik; partNo: 885012206052; E-mail: libraries@we-online.com; ComponentLink1Description: Manufacturer; ComponentLink1URL: http://www.we-online.com; ComponentLink2Description: Datasheet; ComponentLink2URL: http://katalog.we-online.de/pbs/datasheet/885012206052.pdf; Created by: Karrer Zheng; Created Date: 3/9/2015; Capacitance: 1μF pF
footprint WCAP-CSGP 0603, H=0.8mm
pins: 1, 2

## WCAP-CSGP 0603, 885012206053
designator C?, comment 100 pF
WCAP-CSGP MLCC, X7R, 0603, 100 pF,25Vdc; Manufacturer: Wurth Elektronik; partNo: 885012206053; E-mail: libraries@we-online.com; ComponentLink1Description: Manufacturer; ComponentLink1URL: http://www.we-online.com; ComponentLink2Description: Datasheet; ComponentLink2URL: http://katalog.we-online.de/pbs/datasheet/885012206053.pdf; Created by: Karrer Zheng; Created Date: 3/9/2015; Capacitance: 100 pF
footprint WCAP-CSGP 0603, H=0.8mm
pins: 1, 2

## WCAP-CSGP 0603, 885012206054
designator C?, comment 150 pF
WCAP-CSGP MLCC, X7R, 0603, 150 pF,25Vdc; Manufacturer: Wurth Elektronik; partNo: 885012206054; E-mail: libraries@we-online.com; ComponentLink1Description: Manufacturer; ComponentLink1URL: http://www.we-online.com; ComponentLink2Description: Datasheet; ComponentLink2URL: http://katalog.we-online.de/pbs/datasheet/885012206054.pdf; Created by: Karrer Zheng; Created Date: 3/9/2015; Capacitance: 150 pF
footprint WCAP-CSGP 0603, H=0.8mm
pins: 1, 2

## WCAP-CSGP 0603, 885012206055
designator C?, comment 220 pF
WCAP-CSGP MLCC, X7R, 0603, 220 pF,25Vdc; Manufacturer: Wurth Elektronik; partNo: 885012206055; E-mail: libraries@we-online.com; ComponentLink1Description: Manufacturer; ComponentLink1URL: http://www.we-online.com; ComponentLink2Description: Datasheet; ComponentLink2URL: http://katalog.we-online.de/pbs/datasheet/885012206055.pdf; Created by: Karrer Zheng; Created Date: 3/9/2015; Capacitance: 220 pF
footprint WCAP-CSGP 0603, H=0.8mm
pins: 1, 2

## WCAP-CSGP 0603, 885012206056
designator C?, comment 330 pF
WCAP-CSGP MLCC, X7R, 0603, 330 pF,25Vdc; Manufacturer: Wurth Elektronik; partNo: 885012206056; E-mail: libraries@we-online.com; ComponentLink1Description: Manufacturer; ComponentLink1URL: http://www.we-online.com; ComponentLink2Description: Datasheet; ComponentLink2URL: http://katalog.we-online.de/pbs/datasheet/885012206056.pdf; Created by: Karrer Zheng; Created Date: 3/9/2015; Capacitance: 330 pF
footprint WCAP-CSGP 0603, H=0.8mm
pins: 1, 2

## WCAP-CSGP 0603, 885012206057
designator C?, comment 470 pF
WCAP-CSGP MLCC, X7R, 0603, 470 pF,25Vdc; Manufacturer: Wurth Elektronik; partNo: 885012206057; E-mail: libraries@we-online.com; ComponentLink1Description: Manufacturer; ComponentLink1URL: http://www.we-online.com; ComponentLink2Description: Datasheet; ComponentLink2URL: http://katalog.we-online.de/pbs/datasheet/885012206057.pdf; Created by: Karrer Zheng; Created Date: 3/9/2015; Capacitance: 470 pF
footprint WCAP-CSGP 0603, H=0.8mm
pins: 1, 2

## WCAP-CSGP 0603, 885012206058
designator C?, comment 680 pF
WCAP-CSGP MLCC, X7R, 0603, 680 pF,25Vdc; Manufacturer: Wurth Elektronik; partNo: 885012206058; E-mail: libraries@we-online.com; ComponentLink1Description: Manufacturer; ComponentLink1URL: http://www.we-online.com; ComponentLink2Description: Datasheet; ComponentLink2URL: http://katalog.we-online.de/pbs/datasheet/885012206058.pdf; Created by: Karrer Zheng; Created Date: 3/9/2015; Capacitance: 680 pF
footprint WCAP-CSGP 0603, H=0.8mm
pins: 1, 2